# Altium schematic symbol library SCH - CONNECTORS - SAMTEC - PHF-102-01-S-S.SCHLIB: 1 symbol
Pins are listed as number, name and electrical type; pins without a type are passive.

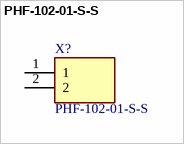
[diagram p0: symbol PHF-102-01-S-S]

## PHF-102-01-S-S
designator X?
Connector; Manufacturer_Name: SAMTEC; Datasheet Link: http://suddendocs.samtec.com/prints/phf-1xx-xx-x-x-xxx-mkt.pdf; Height: 8.51mm; Manufacturer_Part_Number: PHF-102-01-S-S; Mouser Part Number: 200-PHF10201SS; Mouser Price/Stock: https://www.mouser.com/Search/Refine.aspx?Keyword=200-PHF10201SS
footprint PHF10201SS
pins: 1, 2